# EAGLE library part 690367282476 (library Eagle_BOARD-TO-BOARD_CONNECTORS (rev18b))
WR-MM Female SMT Connector with Polarization, 24 Pins=>Code : Con_BTB_MM_Female_SMT_690367282476 <http://katalog.we-online.de/media/thumbs2/eican/thb_Con_BTB_MM_Female_SMT_69036728xx76_pf2.jpg> Details see: http://katalog.we-online.de/en/em/6903_6728_xx_76 Created 2014-06-04, Karrer Zheng 2014 (C) Würth Elektronik
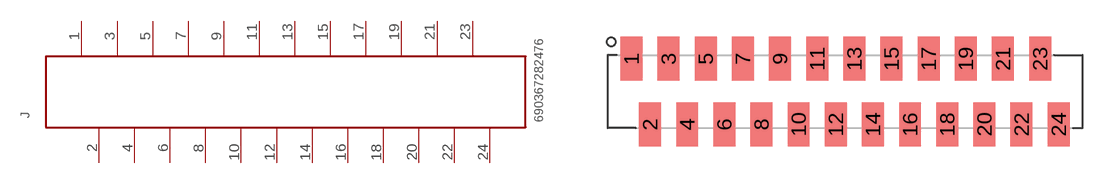
[diagram p358: symbol with the pads of 690367282476; footprint 690367282476]

Designator prefix J

## 690367282476  [690367282476]
1  24  pas
2  23  pas
3  22  pas
4  21  pas
5  20  pas
6  19  pas
7  18  pas
8  17  pas
9  16  pas
10  15  pas
11  14  pas
12  13  pas
13  12  pas
14  11  pas
15  10  pas
16  9  pas
17  8  pas
18  7  pas
19  6  pas
20  5  pas
21  4  pas
22  3  pas
23  2  pas
24  1  pas

## Footprint 690367282476 (pad centres in mm)
WR-MM Female SMT Connector with Polarization, 24 pins
smd 1.5 x 3: 1 -14.605,2.25; 2 -13.335,-2.25; 3 -12.065,2.25; 4 -10.795,-2.25; 5 -9.525,2.25; 6 -8.255,-2.25; 7 -6.985,2.25; 8 -5.715,-2.25; 9 -4.445,2.25; 10 -3.175,-2.25; 11 -1.905,2.25; 12 -0.635,-2.25; 13 0.635,2.25; 14 1.905,-2.25; 15 3.175,2.25; 16 4.445,-2.25; 17 5.715,2.25; 18 6.985,-2.25; 19 8.255,2.25; 20 9.525,-2.25; 21 10.795,2.25; 22 12.065,-2.25; 23 13.335,2.25; 24 14.605,-2.25